# Altium schematic symbol library MC14504BDR2G.Schlib: 1 symbol
Pins are listed as number, name and electrical type; pins without a type are passive.

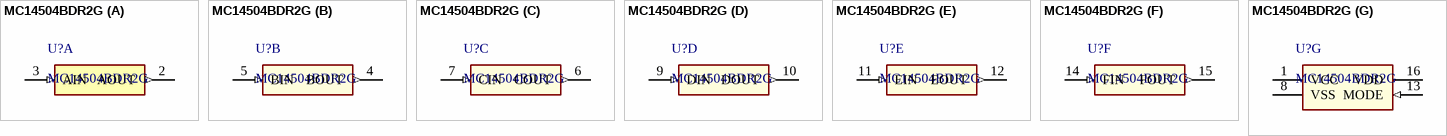
[diagram p0: symbol MC14504BDR2G]

## MC14504BDR2G
designator U?
6 Channel 5V to 15V level shifter
part A pins: 2 AOUT (out), 3 AIN (in)
part B pins: 4 BOUT (out), 5 BIN (in)
part C pins: 6 COUT (out), 7 CIN (in)
part D pins: 9 DIN (in), 10 DOUT (out)
part E pins: 11 EIN (in), 12 EOUT (out)
part F pins: 14 FIN (in), 15 FOUT (out)
part G pins: 1 VCC (power), 8 VSS (power), 13 MODE (in), 16 VDD (power)